# Altium footprint library switch-misc.PCBLIB: 30 footprints (part 1 of 2)
Each footprint in its own frame and in the unit in brackets; x right, y up, seen from the top. Pads: shape width x height; smd on the part's side, far side on the other; paste and mask are expansions set on the pad; w line width, h text height; cw(c..) or ccw(c..) is an arc to the next point about the centre after c.
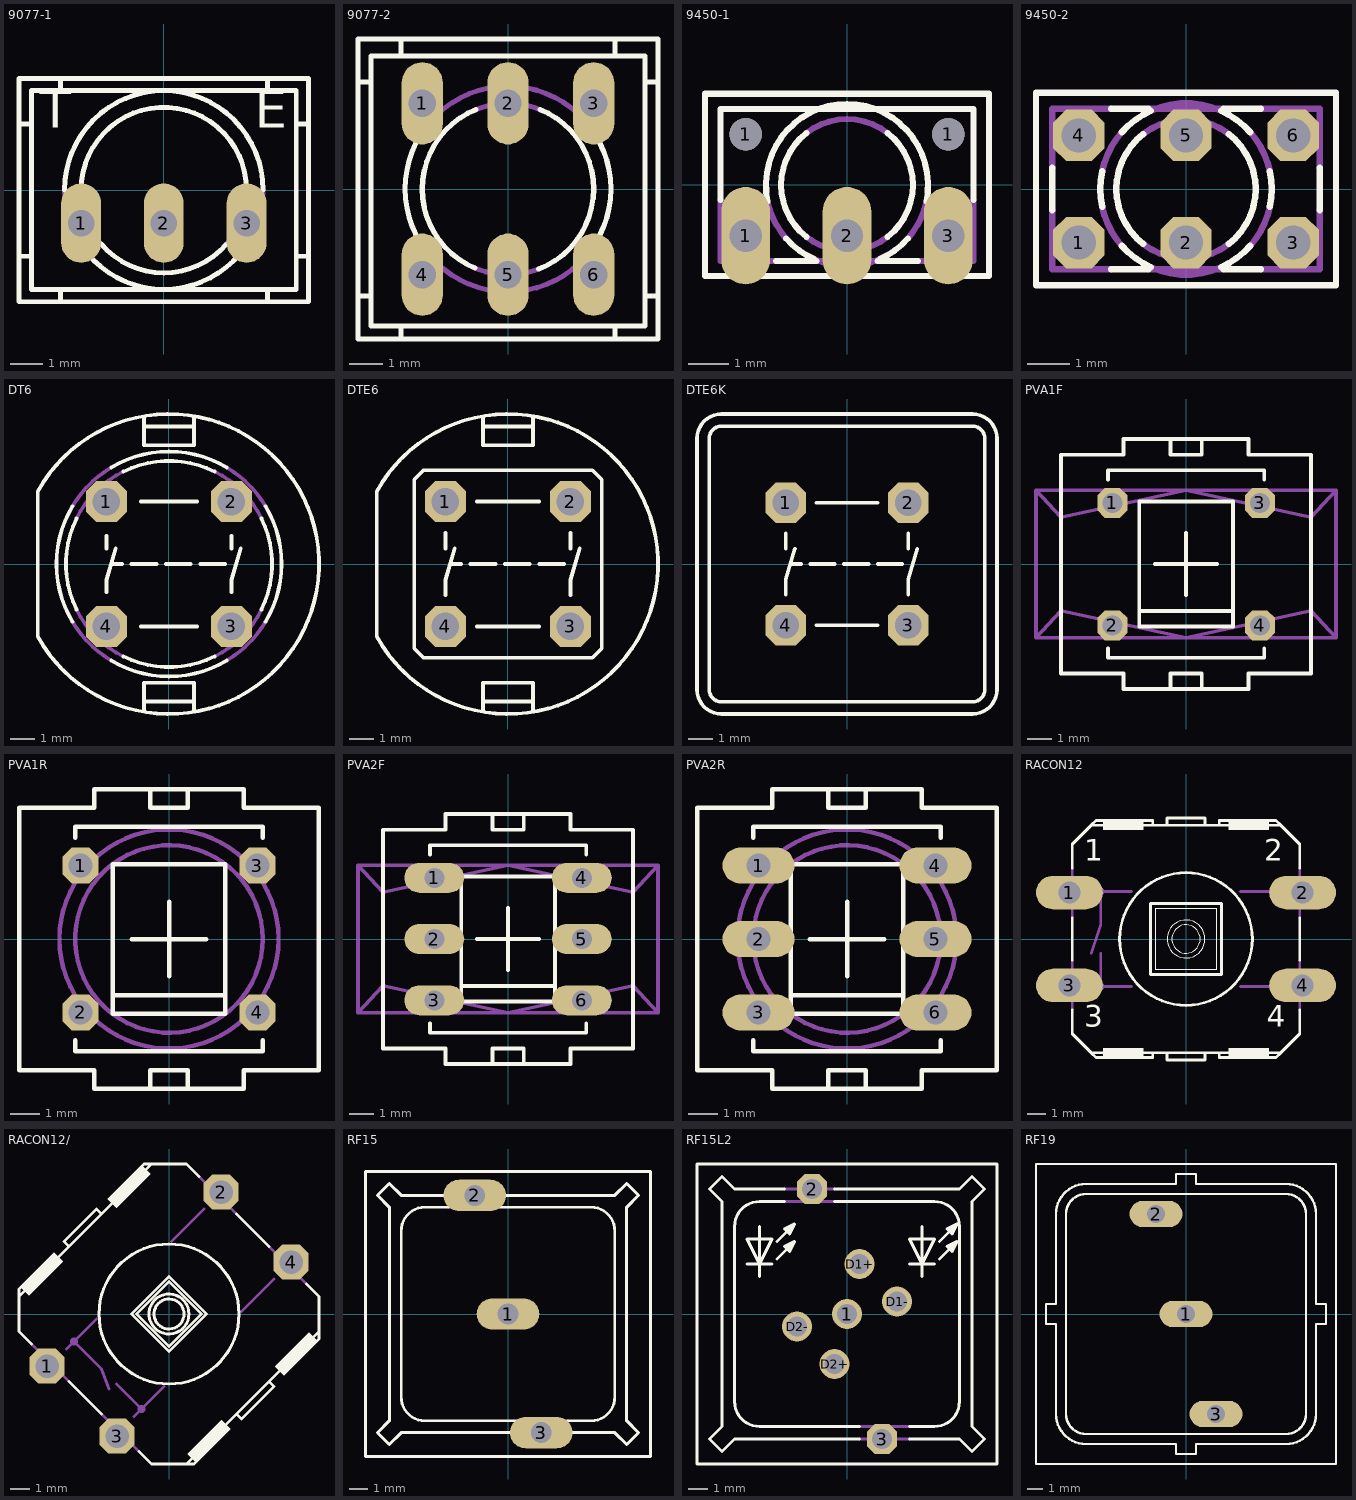
[diagram p0: the footprints below, top view; thin cyan lines are the x and y axes]

## 9077-1 [mil]
pads (3):
  oval 48x96 hole 32: 1(-100,-40) 2(0,-40) 3(100,-40)
Top Overlay:
  lines w6: -120,0 cw(c0,0) 120,0 ; -100,0 cw(c0,0) 100,0 ; -93.13,-75.67 ccw(c0,0) 0,-120 ccw(c0,0.01) 92.19,-76.82 ; -75.93,-65.08 ccw(c0,0) 0,-100 ccw(c0,0) 75.57,-65.49 ; -175,-80 -160,-80 ; -175,-80 -175,-135 -125,-135 ; -175,-80 -175,80 ; -175,80 -175,135 -125,135 ; -175,80 -160,80 ; -160,-80 -160,-120 -125,-120 ; -160,-80 -160,80 ; -160,80 -160,120 -125,120 ; -125,-135 -125,-120 ; -125,-135 125,-135 ; -125,-120 125,-120 ; -125,120 -125,135 ; -125,120 125,120 ; -125,135 125,135 ; 125,-135 175,-135 175,-80 ; 125,-135 125,-120 ; 125,-120 160,-120 160,-80 ; 125,120 125,135 ; 125,120 160,120 160,80 ; 125,135 175,135 175,80 ; 160,-80 175,-80 ; 160,-80 160,80 ; 160,80 175,80 ; 175,-80 175,80
  text "T" at -150,60 h77.5
  text "E" at 110,60 h77.5
Mechanical 16:
  lines w6: -120,0 ccw(c-0.01,0) -82.53,-87.11 ; -100,0 ccw(c0,0) -70.71,-70.71 ; 72.95,-68.39 ccw(c0,0.01) 100,0 ; 84.85,-84.85 ccw(c0,0) 120,0

## 9077-2 [mil]
pads (6):
  oval 48x96 hole 32: 1(-100,100) 2(0,100) 3(100,100) 4(-100,-100) 5(0,-100) 6(100,-100)
Top Overlay:
  lines w6: -102.39,-62.57 cw(c-0.01,0.01) -120,0 cw(c0,0) -102.2,62.89 ; -38.46,-92.31 cw(c0,0) -100,0 cw(c0,0) -37.14,92.85 ; 35.9,-93.33 ccw(c0,0) 100,0 ccw(c0,0) 37.14,92.85 ; 101.24,-64.43 ccw(c-0.01,0) 120,0 ccw(c-0.01,0) 101.24,64.43 ; -175,-125 -160,-125 ; -175,-125 -175,-175 -125,-175 ; -175,-125 -175,125 ; -175,125 -175,175 -125,175 ; -175,125 -160,125 ; -160,-125 -160,-160 -125,-160 ; -160,-125 -160,125 ; -160,125 -160,155 -125,155 ; -125,-175 -125,-160 ; -125,-175 125,-175 ; -125,-160 125,-160 ; -125,155 -125,175 ; -125,155 125,155 ; -125,175 125,175 ; 125,-175 175,-175 175,-125 ; 125,-175 125,-160 ; 125,-160 160,-160 160,-125 ; 125,155 125,175 ; 125,155 160,155 160,125 ; 125,175 175,175 175,125 ; 160,-125 175,-125 ; 160,-125 160,125 ; 160,125 175,125 ; 175,-125 175,125
Mechanical 16:
  lines w6: -105.35,-57.46 ccw(c0,0) 0,-120 ccw(c-0.01,0) 103.65,-60.46 ; -105.15,57.83 cw(c0,0) 0,120 cw(c0,0) 103.43,60.84 ; -42.58,-90.48 ccw(c0,0) 0,-100 ccw(c0,-0.01) 40.61,-91.38 ; -40.08,91.61 cw(c0.01,0) 0,100 cw(c0,0.01) 40.61,91.38
  text "E" at 100,90 h77.5
  text "T" at -145,90 h77.5

## 9450-1 [mil]
pads (5):
  oval 48x96 hole 32: 1(-100,-50) 2(0,-50) 3(100,-50)
  round 32 hole 32: 1(-100,50) 1(100,50)
Top Overlay:
  lines w6: -125,-15 -125,75 125,75 125,-15 ; -78.3,-16.4 cw(c0,0) 78.3,-16.4 ; -70,-75 -30,-75 ; -39.98,-51.25 cw(c0,0) -39.98,51.25 ; 30,-75 70,-75 ; 39.98,-51.25 ccw(c0,0) 39.98,51.25 ; -140,-90 140,-90 140,90 -140,90 -140,-90 ; -60.1,-52.8 ccw(c0.01,0.02) -32.72,-73 cw(c0.01,0.02) -60.1,-52.8 ; 32.72,-73 ccw(c-0.01,0.02) 60.1,-52.8 cw(c-0.01,0.02) 32.72,-73
Mechanical 16:
  lines w6: -125,-15 -125,-75 -70,-75 ; -39.98,-51.25 ccw(c0,0) 39.98,-51.25 ; -39.98,51.25 cw(c0,0) 39.98,51.25 ; -30,-75 30,-75 ; 70,-75 125,-75 125,-15 ; -78.3,-16.4 ccw(c-0.01,0) -60.1,-52.8 cw(c-0.01,0) -78.3,-16.4 ; -32.72,-73 ccw(c0,-0.01) 32.72,-73 cw(c0,-0.01) -32.72,-73 ; 60.1,-52.8 ccw(c0.01,0) 78.3,-16.4 cw(c0.01,0) 60.1,-52.8

## 9450-2 [mil]
pads (6):
  oct 48x48 hole 32: 1(-100,-50) 2(0,-50) 3(100,-50) 4(-100,50) 5(0,50) 6(100,50)
Top Overlay:
  lines w6: -125,-20 -125,20 ; -78.3,-16.4 cw(c0.01,0) -78.3,16.4 ; -70,-75 -35,-75 ; -70,75 -35,75 ; -60.1,-52.8 ccw(c0.01,0.02) -32.72,-73 ; -60.1,52.8 cw(c0.01,-0.02) -32.72,73 ; -39.98,-51.25 cw(c0,0) -39.98,51.25 ; 32.72,-73 ccw(c-0.01,0.02) 60.1,-52.8 ; 32.72,73 cw(c-0.01,-0.02) 60.1,52.8 ; 35,-75 70,-75 ; 35,75 70,75 ; 39.98,-51.25 ccw(c0,0) 39.98,51.25 ; 78.3,-16.4 ccw(c-0.01,0) 78.3,16.4 ; 125,-20 125,20 ; -140,-90 140,-90 140,90 -140,90 -140,-90
Mechanical 16:
  lines w6: -125,-20 -125,-75 -70,-75 ; -125,20 -125,75 -70,75 ; -78.3,-16.4 ccw(c-0.01,0) -60.1,-52.8 ; -78.3,16.4 cw(c-0.01,0) -60.1,52.8 ; -39.98,-51.25 ccw(c0,0) 39.98,-51.25 ; -39.98,51.25 cw(c0,0) 39.98,51.25 ; -35,-75 35,-75 ; -35,75 35,75 ; -32.72,-73 ccw(c0,-0.01) 32.72,-73 ; -32.72,73 cw(c0,0.01) 32.72,73 ; 60.1,-52.8 ccw(c0.01,0) 78.3,-16.4 ; 60.1,52.8 cw(c0.01,0) 78.3,16.4 ; 70,-75 125,-75 125,-20 ; 70,75 125,75 125,20

## DT6 [mil]
pads (4):
  oct 66x66 hole 44: 1(-100,100) 2(100,100) 3(100,-100) 4(-100,-100)
Top Overlay:
  lines w6: -154.47,-92.4 cw(c0,0) -154.47,92.4 ; -147.94,-73.06 cw(c0.01,0) -147.94,73.06 ; -100,-45 -100,-25 -85,25 ; -100,25 -100,45 ; -92.4,-154.47 ccw(c0,0) 92.4,-154.47 ; -92.4,154.47 cw(c0,0) 92.4,154.47 ; -90,0 -75,0 ; -73.06,-147.94 ccw(c0,0.01) 73.06,-147.94 ; -73.06,147.94 cw(c0,-0.01) 73.06,147.94 ; -60,0 -20,0 ; -45,-100 45,-100 ; -45,100 45,100 ; -40,-235 -40,-220 ; -40,235 -40,220 ; -5,0 35,0 ; 40,-235 40,-220 ; 40,235 40,220 ; 50,0 90,0 ; 100,-45 100,-25 115,25 ; 100,25 100,45 ; 147.94,-73.06 ccw(c-0.01,0) 147.94,73.06 ; 154.47,-92.4 ccw(c0,0) 154.47,92.4 ; -40,-220 40,-220 ; -40,-220 -40,-190 40,-190 40,-220 ; -40,220 -40,190 40,190 40,220 ; -40,220 40,220 ; -210,-116.19 ccw(c0,0) -210,116.19 -210,-116.19
Mechanical 16:
  lines w6: -154.47,-92.4 ccw(c0,0) -92.4,-154.47 ; -154.47,92.4 cw(c0,0) -92.4,154.47 ; -147.94,-73.06 ccw(c-0.01,-0.01) -73.06,-147.94 ; -147.94,73.06 cw(c-0.01,0.01) -73.06,147.94 ; 73.06,-147.94 ccw(c0.01,-0.01) 147.94,-73.06 ; 73.06,147.94 cw(c0.01,0.01) 147.94,73.06 ; 92.4,-154.47 ccw(c0,0) 154.47,-92.4 ; 92.4,154.47 cw(c0,0) 154.47,92.4

## DTE6 [mil]
pads (4):
  oct 66x66 hole 44: 1(-100,100) 2(100,100) 3(100,-100) 4(-100,-100)
Top Overlay:
  lines w6: -100,-50 -100,-25 -85,25 ; -100,25 -100,50 ; -90,0 -75,0 ; -60,0 -20,0 ; -50,-100 50,-100 ; -50,100 50,100 ; -40,-235 -40,-220 ; -40,235 -40,220 ; -5,0 35,0 ; 40,-235 40,-220 ; 40,235 40,220 ; 50,0 90,0 ; 100,-50 100,-25 115,25 ; 100,25 100,50 ; -40,-220 40,-220 ; -40,-220 -40,-190 40,-190 40,-220 ; -40,220 -40,190 40,190 40,220 ; -40,220 40,220 ; -210,-116.19 ccw(c0,0) -210,116.19 -210,-116.19 ; -150,-135 -150,135 -135,150 135,150 150,135 150,-135 135,-150 -135,-150 -150,-135

## DTE6K [mil]
pads (4):
  oct 66x66 hole 44: 1(-100,100) 2(100,100) 3(100,-100) 4(-100,-100)
Top Overlay:
  lines w6: -100,-50 -100,-25 -85,25 ; -100,25 -100,50 ; -90,0 -75,0 ; -60,0 -20,0 ; -50,-100 50,-100 ; -50,100 50,100 ; -5,0 35,0 ; 50,0 90,0 ; 100,-50 100,-25 115,25 ; 100,25 100,50 ; -245,-205 -245,205 cw(c-205,205) -205,245 205,245 cw(c205,205) 245,205 245,-205 cw(c205,-205) 205,-245 -205,-245 cw(c-205,-205) -245,-205 ; -225,-205 -225,205 cw(c-205,205) -205,225 205,225 cw(c205,205) 225,205 225,-205 cw(c205,-205) 205,-225 -205,-225 cw(c-205,-205) -225,-205

## PVA1F [mil]
pads (4):
  oct 48x48 hole 32: 1(-118,98) 2(-118,-98) 3(118,98) 4(118,-98)
Top Overlay:
  lines w6: -125,-135 -125,-150 125,-150 125,-135 ; -125,135 -125,150 125,150 125,135 ; -50,0 50,0 ; 0,-50 0,50 ; -75,-75 -75,100 75,100 75,-75 ; -75,-75 75,-75 ; -75,-75 -75,-100 75,-100 75,-75 ; -25,-200 -25,-175 25,-175 25,-200 ; -25,-200 -100,-200 -100,-175 -200,-175 -200,175 -100,175 -100,200 -25,200 ; -25,-200 25,-200 ; -25,200 -25,175 25,175 25,200 ; -25,200 25,200 ; 25,-200 100,-200 100,-175 200,-175 200,175 100,175 100,200 25,200
Mechanical 16:
  lines w6: -240,-118 -240,118 ; -240,-118 0,-118 ; -240,-118 -200,-75 ; -240,118 -200,75 ; -240,118 0,118 ; -200,-75 -200,75 ; -200,-75 0,-118 ; -200,75 0,118 ; 0,-118 200,-75 ; 0,-118 240,-118 ; 0,118 240,118 ; 0,118 200,75 ; 200,-75 200,75 ; 200,-75 240,-118 ; 200,75 240,118 ; 240,-118 240,118

## PVA1R [mil]
pads (4):
  oct 48x48 hole 32: 1(-118,98) 2(-118,-98) 3(118,98) 4(118,-98)
Top Overlay:
  lines w6: -125,-135 -125,-150 125,-150 125,-135 ; -125,135 -125,150 125,150 125,135 ; -50,0 50,0 ; 0,-50 0,50 ; -75,-75 -75,100 75,100 75,-75 ; -75,-75 75,-75 ; -75,-75 -75,-100 75,-100 75,-75 ; -25,-200 -25,-175 25,-175 25,-200 ; -25,-200 -100,-200 -100,-175 -200,-175 -200,175 -100,175 -100,200 -25,200 ; -25,-200 25,-200 ; -25,200 -25,175 25,175 25,200 ; -25,200 25,200 ; 25,-200 100,-200 100,-175 200,-175 200,175 100,175 100,200 25,200
Mechanical 16:
  circle w6: c0,0 r146
  circle w6: c0,0 r125

## PVA2F [mil]
pads (6):
  oval 96x48 hole 32: 1(-118,98) 2(-118,0) 3(-118,-98) 4(118,98) 5(118,0) 6(118,-98)
Top Overlay:
  lines w6: -125,-135 -125,-150 125,-150 125,-135 ; -125,135 -125,150 125,150 125,135 ; -50,0 50,0 ; 0,-50 0,50 ; -75,-75 -75,100 75,100 75,-75 ; -75,-75 75,-75 ; -75,-75 -75,-100 75,-100 75,-75 ; -25,-200 -25,-175 25,-175 25,-200 ; -25,-200 -100,-200 -100,-175 -200,-175 -200,175 -100,175 -100,200 -25,200 ; -25,-200 25,-200 ; -25,200 -25,175 25,175 25,200 ; -25,200 25,200 ; 25,-200 100,-200 100,-175 200,-175 200,175 100,175 100,200 25,200
Mechanical 16:
  lines w6: -240,-118 -240,118 ; -240,-118 0,-118 ; -240,-118 -200,-75 ; -240,118 -200,75 ; -240,118 0,118 ; -200,-75 -200,75 ; -200,-75 0,-118 ; -200,75 0,118 ; 0,-118 200,-75 ; 0,-118 240,-118 ; 0,118 240,118 ; 0,118 200,75 ; 200,-75 200,75 ; 200,-75 240,-118 ; 200,75 240,118 ; 240,-118 240,118

## PVA2R [mil]
pads (6):
  oval 96x48 hole 32: 1(-118,98) 2(-118,0) 3(-118,-98) 4(118,98) 5(118,0) 6(118,-98)
Top Overlay:
  lines w6: -125,-135 -125,-150 125,-150 125,-135 ; -125,135 -125,150 125,150 125,135 ; -50,0 50,0 ; 0,-50 0,50 ; -75,-75 -75,100 75,100 75,-75 ; -75,-75 -75,-100 75,-100 75,-75 ; -75,-75 75,-75 ; -25,-200 -25,-175 25,-175 25,-200 ; -25,-200 -100,-200 -100,-175 -200,-175 -200,175 -100,175 -100,200 -25,200 ; -25,-200 25,-200 ; -25,200 -25,175 25,175 25,200 ; -25,200 25,200 ; 25,-200 100,-200 100,-175 200,-175 200,175 100,175 100,200 25,200
Mechanical 16:
  circle w6: c0,0 r146
  circle w6: c0,0 r125

## RACON12 [mil]
pads (4):
  oval 141x70.5 hole 47: 1(-246,98) 2(246,98) 3(-246,-98) 4(246,-98)
Top Overlay:
  circle w6: c0,0 r140
  circle w2: c0,0 r40
  circle w2: c0,0 r30
  rectangle: 90,230 175,250
  rectangle: -175,230 -90,250
  rectangle: 90,-250 175,-230
  rectangle: -175,-250 -90,-230
  lines w2: -65,-65 65,-65 65,65 -65,65 -65,-65
  lines w6: -240,-150 -240,-200 -200,-240 ; -240,-45 -240,45 ; -240,150 -240,200 -200,240 ; 240,-150 240,-200 200,-240 ; 240,-45 240,45 ; 240,150 240,200 200,240 ; -200,-240 -70,-240 ; -200,-240 -190,-250 -70,-250 -70,-240 ; -200,240 -70,240 ; -200,240 -190,250 -70,250 -70,240 ; -70,-240 -40,-240 ; -70,240 -40,240 ; -40,-240 -40,-255 40,-255 40,-240 ; -40,-240 40,-240 ; -40,240 -40,255 40,255 40,240 ; -40,240 40,240 ; 40,-240 70,-240 ; 40,240 70,240 ; 70,-240 70,-250 190,-250 200,-240 ; 70,-240 200,-240 ; 70,240 200,240 ; 70,240 70,250 190,250 200,240 ; -75,-75 75,-75 75,75 -75,75 -75,-75
  text "1" at -215,150 h77.5
  text "2" at 165,150 h77.5
  text "3" at -215,-200 h77.5
  text "4" at 170,-200 h77.5
Mechanical 16:
  circle w6: c-180,100 r5
  circle w6: c-180,-100 r5
  rectangle: 240,-115 260,-80
  rectangle: 240,80 260,115
  rectangle: -260,80 -240,115
  rectangle: -260,-115 -240,-80
  lines w6: -240,-150 -240,-45 ; -240,45 -240,150 ; -200,-100 -180,-100 ; -200,-30 -180,30 -180,100 ; -200,100 -180,100 ; -180,-30 -180,-100 ; -115,-100 -180,-100 ; -115,100 -180,100 ; 115,-100 200,-100 ; 115,100 200,100 ; 240,-150 240,-45 ; 240,45 240,150

## RACON12/ [mil]
pads (4):
  oct 70.5x70.5 hole 47: 1(-244,-104) 2(104,244) 3(-104,-244) 4(244,104)
Top Overlay:
  circle w6: c0,0 r140
  circle w6: c0,0 r40
  circle w6: c0,0 r30
  lines w6: -275,-60 -300,-35 -300,35 ; -230,115 -290,55 -290,50 ; -220,105 -280,45 -280,40 ; -200,-135 -135,-200 ; -115,230 -55,290 -55,295 ; -105,220 -45,280 -45,285 ; -60,-275 -35,-300 35,-300 ; 60,275 35,300 -35,300 ; 105,-220 45,-280 45,-285 ; 115,-230 55,-290 55,-295 ; 135,200 200,135 ; 200,-135 210,-145 145,-210 135,-200 ; 220,-105 280,-45 280,-40 ; 230,-115 290,-55 290,-50 ; 275,60 300,35 300,-35 ; -300,35 -200,135 ; -300,35 -300,50 -295,55 ; -295,55 -230,120 -225,115 ; -295,55 -290,50 ; -290,50 -225,115 ; -290,50 -285,45 ; -285,45 -220,110 ; -285,45 -280,40 ; -280,40 -215,105 -220,110 ; -225,115 -220,110 ; -200,135 -210,145 -145,210 -135,200 ; -200,135 -135,200 ; -135,200 -35,300 ; -115,225 -120,230 -55,295 ; -115,225 -50,290 ; -115,225 -110,220 ; -110,220 -45,285 ; -110,220 -105,215 -40,280 -45,285 ; -55,295 -50,290 ; -55,295 -50,300 -35,300 ; -50,290 -45,285 ; 35,-300 135,-200 ; 35,-300 50,-300 55,-295 ; 40,-280 105,-215 110,-220 ; 40,-280 45,-285 ; 40,-280 55,-295 ; 45,-285 110,-220 ; 45,-285 50,-290 ; 50,-290 115,-225 ; 50,-290 55,-295 ; 55,-295 120,-230 115,-225 ; 110,-220 115,-225 ; 135,-200 300,-35 ; 220,-110 215,-105 280,-40 ; 220,-110 285,-45 ; 220,-110 225,-115 ; 225,-115 290,-50 ; 225,-115 230,-120 295,-55 ; 280,-40 285,-45 ; 285,-45 290,-50 ; 290,-50 295,-55 ; 295,-55 300,-50 300,-35 ; -75,0 0,-75 75,0 0,75 -75,0 ; -65,0 0,-65 65,0 0,65 -65,0
Mechanical 16:
  circle w6: c-55,-190 r5
  circle w6: c-190,-55 r5
  lines w6: -275,-60 -250,-85 ; -250,-90 -230,-110 -225,-110 ; -235,-115 -255,-95 -255,-90 ; -205,-70 -190,-55 ; -200,-135 -225,-110 ; -145,-10 -190,-55 ; -135,-200 -110,-225 ; -120,-150 -135,-110 -190,-55 ; -110,-230 -90,-250 -85,-250 ; -105,-140 -55,-190 ; -95,-255 -115,-235 -115,-230 ; -70,-205 -55,-190 ; -60,-275 -85,-250 ; -10,-145 -55,-190 ; 5,145 70,210 ; 60,275 85,250 ; 95,255 115,235 115,230 ; 110,230 90,250 85,250 ; 135,200 110,225 ; 145,5 210,70 ; 200,135 250,85 ; 235,115 255,95 255,90 ; 250,90 230,110 225,110 ; 275,60 250,85 ; -255,-90 -250,-85 ; -255,-90 -230,-115 ; -255,-90 -260,-95 -235,-120 -230,-115 ; -250,-85 -225,-110 ; -230,-115 -225,-110 ; -115,-230 -110,-225 ; -115,-230 -90,-255 ; -115,-230 -120,-235 -95,-260 -90,-255 ; -110,-225 -85,-250 ; -90,-255 -85,-250 ; 85,250 90,255 ; 85,250 110,225 ; 90,255 95,260 120,235 115,230 ; 90,255 115,230 ; 110,225 115,230 ; 225,110 250,85 ; 225,110 230,115 ; 230,115 235,120 260,95 255,90 ; 230,115 255,90 ; 250,85 255,90

## RF15 [mil]
pads (3):
  oval 132x66 hole 44: 1(0,0) 2(-70,250) 3(70,-250)
Top Overlay:
  lines w6: -125,225 -175,225 ccw(c-175,175) -225,175 -225,-175 ccw(c-175,-175) -175,-225 25,-225 ; -125,250 -225,250 -250,275 -275,250 -250,225 -250,-225 -275,-250 -250,-275 -225,-250 25,-250 ; -25,225 175,225 cw(c175,175) 225,175 225,-175 cw(c175,-175) 175,-225 125,-225 ; -25,250 225,250 250,275 275,250 250,225 250,-225 275,-250 250,-275 225,-250 125,-250 ; -300,-300 300,-300 300,300 -300,300 -300,-300
Mechanical 16:
  lines w6: -125,225 -25,225 ; -125,250 -25,250 ; 25,-250 125,-250 ; 25,-225 125,-225

## RF15L2 [mil]
pads (7):
  round 60 hole 40: 1(0,0) D1+(25,100) D1-(100,25) D2+(-25,-100) D2-(-100,-25)
  oct 60x60 hole 40: 2(-70,250) 3(70,-250)
Top Overlay:
  lines w6: -200,100 -175,100 ; -175,75 -175,100 ; -175,175 -175,100 ; -150,100 -175,100 ; -140,110 -105,145 ; -140,145 -105,180 ; -125,225 -175,225 ccw(c-175,175) -225,175 -225,-175 ccw(c-175,-175) -175,-225 25,-225 ; -125,250 -225,250 -250,275 -275,250 -250,225 -250,-225 -275,-250 -250,-275 -225,-250 25,-250 ; -25,225 175,225 cw(c175,175) 225,175 225,-175 cw(c175,-175) 175,-225 125,-225 ; -25,250 225,250 250,275 275,250 250,225 250,-225 275,-250 250,-275 225,-250 125,-250 ; 125,100 150,100 ; 150,75 150,100 ; 150,175 150,100 ; 175,100 150,100 ; 185,110 220,145 ; 185,145 220,180 ; -175,100 -200,150 -150,150 -175,100 ; -105,145 -125,135 -115,125 -105,145 ; -105,180 -125,170 -115,160 -105,180 ; 150,100 125,150 175,150 150,100 ; 220,145 200,135 210,125 220,145 ; 220,180 200,170 210,160 220,180 ; -300,-300 300,-300 300,300 -300,300 -300,-300
Mechanical 16:
  lines w6: -125,225 -25,225 ; -125,250 -25,250 ; 25,-250 125,-250 ; 25,-225 125,-225

## RF19 [mil]
pads (3):
  oval 132x66 hole 44: 1(0,0) 2(-75,250) 3(75,-250)
Top Overlay:
  lines w6: -375,-375 375,-375 375,375 -375,375 -375,-375 ; -350,-25 -350,25 -325,25 -325,250 cw(c-250,250) -250,325 -25,325 -25,350 25,350 25,325 250,325 cw(c250,250) 325,250 325,25 350,25 350,-25 325,-25 325,-250 cw(c250,-250) 250,-325 25,-325 25,-350 -25,-350 -25,-325 -250,-325 cw(c-250,-250) -325,-250 -325,-25 -350,-25 ; -300,-250 -300,250 cw(c-250,250) -250,300 250,300 cw(c250,250) 300,250 300,-250 cw(c250,-250) 250,-300 -250,-300 cw(c-250,-250) -300,-250